# Altium footprint library 826652-2.PcbLib: 1 footprints
Each footprint in its own frame and in the unit in brackets; x right, y up, seen from the top. Pads: shape width x height; smd on the part's side, far side on the other; paste and mask are expansions set on the pad; w line width, h text height; cw(c..) or ccw(c..) is an arc to the next point about the centre after c.
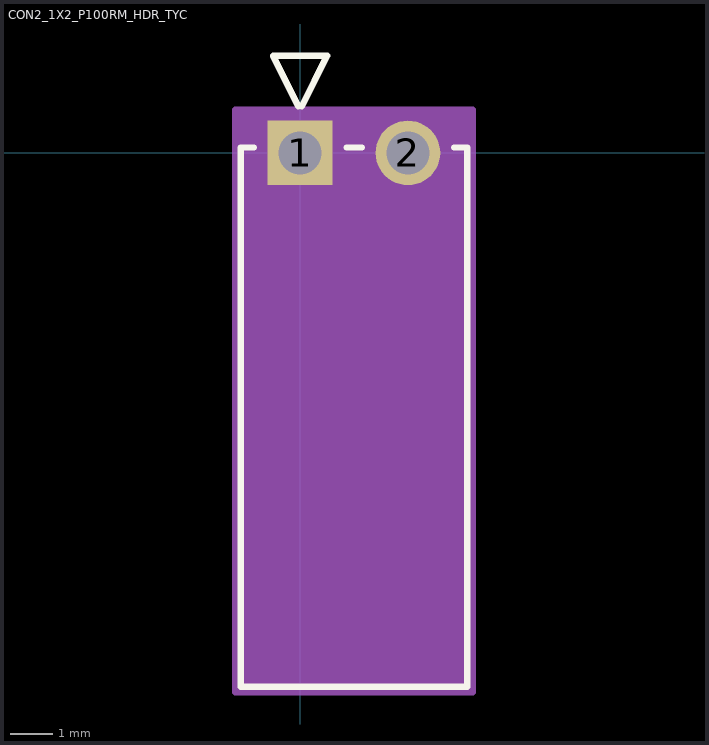
[diagram p0: the footprint, top view; thin cyan lines are the x and y axes]

## CON2_1X2_P100RM_HDR_TYC [mil]
pads (2):
  rect 60x60 / inner round 60 / far side rect 60x60 hole 40 paste-30 mask+0: 1(0,0)
  round 60 hole 40 paste-30 mask+0: 2(100,0)
Top Overlay:
  lines w6: -43.1,5 -55,5 -55,-495 155,-495 155,5 142.81,5 ; -1.55,43.1 -25,90 25,90 1.55,43.1 ; 43.1,5 57.19,5
Mechanical 13:
  lines w1: -50,-490 150,-490 150,0 -50,0 -50,-490 ; -25,90 0,40 25,90 -25,90
Mechanical 15:
  region: 160,40 -60,40 -60,-500 160,-500
  lines w6: -60,-500 -60,40 160,40 160,-500 -60,-500
3D body "CON2_1X2_P100RM_HDR_TYC.step": height 100, standoff -250, extent -50,-15 150,490